# Altium schematic symbol library BSS138.SchLib: 1 symbol
Pins are listed as number, name and electrical type; pins without a type are passive.

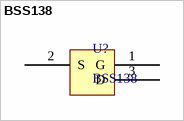
[diagram p0: symbol BSS138]

## BSS138
designator U?
BSS138 SOT-23
footprint SOT-23
pins: 1 G, 2 S, 3 D